# Altium schematic symbol library TPA731D.SchLib: 1 symbol
Pins are listed as number, name and electrical type; pins without a type are passive.

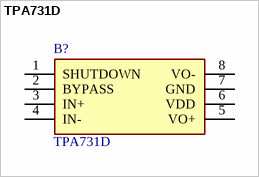
[diagram p0: symbol TPA731D]

## TPA731D
designator B?
700-mW Mono, Differential Input, Class-AB Audio Amplifier with Active High Shutdown; Manufacturer_Name: Texas Instruments; Geometry.Height: 1.75mm; Mouser Part Number: 595-TPA731D; Mouser Price/Stock: https://www.mouser.com/Search/Refine.aspx?Keyword=595-TPA731D; Manufacturer_Part_Number: TPA731D; Datasheet Link: http://www.ti.com/lit/gpn/tpa731
footprint SOIC127P600X175-8N
pins: 1 SHUTDOWN, 2 BYPASS, 3 IN+, 4 IN-, 5 VO+, 6 VDD (power), 7 GND (power), 8 VO-